# Altium footprint library CAPC_1210_M3225.PcbLib: 1 footprints
Each footprint in its own frame and in the unit in brackets; x right, y up, seen from the top. Pads: shape width x height; smd on the part's side, far side on the other; paste and mask are expansions set on the pad; w line width, h text height; cw(c..) or ccw(c..) is an arc to the next point about the centre after c.
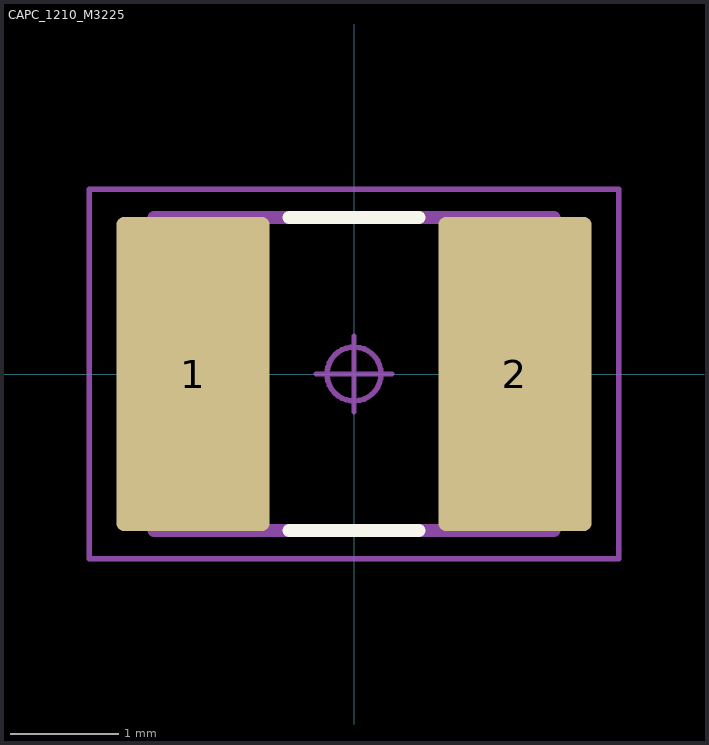
[diagram p0: the footprint, top view; thin cyan lines are the x and y axes]

## CAPC_1210_M3225 [mm] "Capacitor, Chip; 3.30 mm L X 2.60 mm W X 2.90 mm H body"
pads (2):
  rrect10% 1.42x2.91 smd: 1(-1.49,0) 2(1.49,0)
Top Overlay:
  lines w0.12: -0.6,-1.45 0.6,-1.45 ; -0.6,1.45 0.6,1.45
Mechanical 11:
  lines w0.12: -1.85,-1.45 1.85,-1.45 1.85,1.45 -1.85,1.45 -1.85,-1.45
  text ".Designator" at -1.821,-0.223 h1
Mechanical 15:
  circle w0.05: c0,0 r0.25
  lines w0.05: -0.35,0 0.35,0 ; 0,-0.35 0,0.35 ; -2.45,-1.71 2.45,-1.71 2.45,1.71 -2.45,1.71 -2.45,-1.71
3D body "CAPC_1210_M3225.STEP": height 2.9, standoff 0, extent -1.85,-1.45 1.85,1.45